# Altium footprint library MP2322GQH-P.PcbLib: 1 footprints
Each footprint in its own frame and in the unit in brackets; x right, y up, seen from the top. Pads: shape width x height; smd on the part's side, far side on the other; paste and mask are expansions set on the pad; w line width, h text height; cw(c..) or ccw(c..) is an arc to the next point about the centre after c.
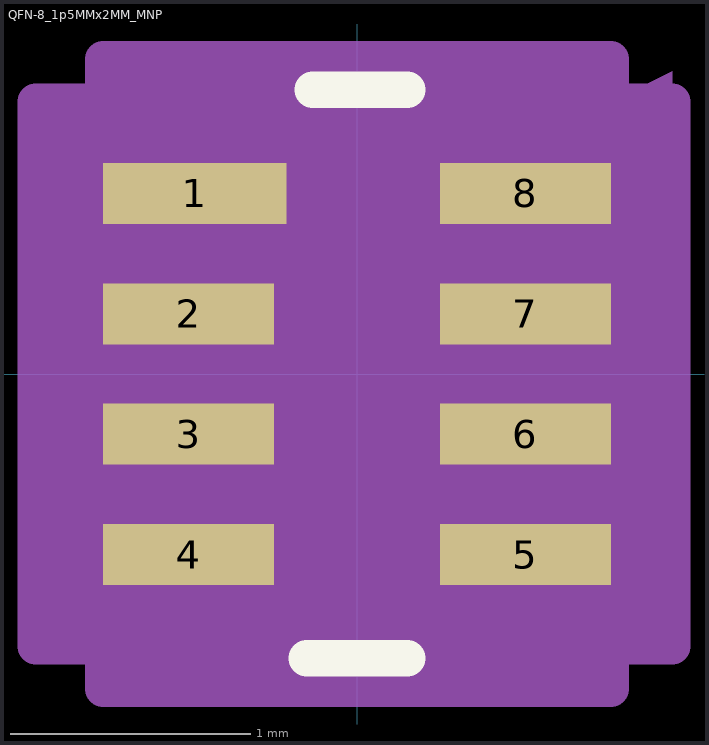
[diagram p0: the footprint, top view; thin cyan lines are the x and y axes]

## QFN-8_1p5MMx2MM_MNP [mil]
pads (8):
  rect 30x10 smd paste+0 mask+0: 1(-26.56,29.54)
  rect 28x10 smd paste-5 mask+0: 2(-27.56,9.85) 3(-27.56,-9.85) 4(-27.56,-29.54) 5(27.56,-29.54) 6(27.56,-9.85) 7(27.56,9.85) 8(27.56,29.54)
Top Overlay:
  lines w6: -8.23,-46.5 8.23,-46.5 ; -7.23,46.5 8.23,46.5
Mechanical 13:
  lines w1: -31.5,-8.5 18.5,41.5 ; -31.5,-41.5 -31.5,41.5 31.5,41.5 31.5,-41.5 -31.5,-41.5
Mechanical 15:
  region: -5.16,-51.5 -41.5,-51.5 -41.5,-44.53 -52.56,-44.53 -52.56,44.53 -41.5,44.53 -41.5,51.5 -5.16,51.5 5.16,51.5 41.5,51.5 41.5,44.53 51.56,49.53 51.56,-44.53 41.5,-44.53 41.5,-51.5 5.16,-51.5
  lines w6: -52.56,-44.53 -52.56,44.53 -41.5,44.53 -41.5,51.5 -5.16,51.5 5.16,51.5 41.5,51.5 41.5,44.53 51.56,44.53 51.56,-44.53 41.5,-44.53 41.5,-51.5 5.16,-51.5 -5.16,-51.5 -41.5,-51.5 -41.5,-44.53 -52.56,-44.53